# EAGLE library part CP2102 (library IC)
http://search.digikey.com/scripts/DkSearch/dksus.dll?Detail&name=336-1802-2-ND
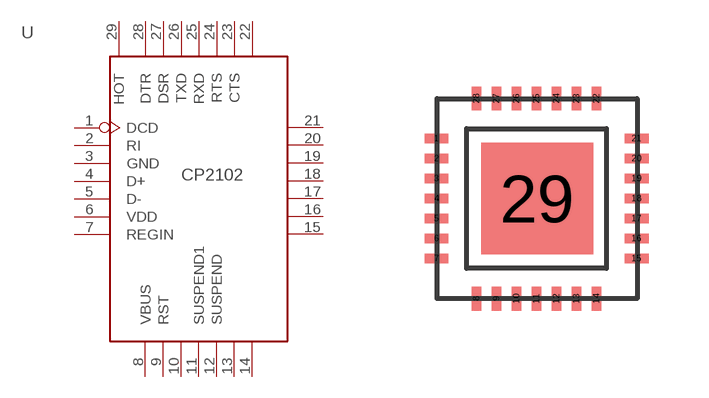
[diagram p42: symbol with the pads of QFN28; footprint QFN28]

Designator prefix U

## CP2102  [QFN28]
1  DCD
2  RI
3  GND
4  D+
5  D-
6  VDD
7  REGIN
8  VBUS
9  RST
10  P$10
11  SUSPEND1
12  SUSPEND
13  P$13
14  P$14
15  P$15
16  P$16
17  P$17
18  P$18
19  P$19
20  P$20
21  P$21
22  P$22
23  CTS
24  RTS
25  RXD
26  TXD
27  DSR
28  DTR
29  HOT

## Footprint QFN28 (pad centres in mm)
smd 0.6 x 0.23: 1 -2.516,1.5; 2 -2.516,1; 3 -2.516,0.5; 4 -2.516,0; 5 -2.516,-0.5; 6 -2.516,-1; 7 -2.516,-1.5; 15 2.484,-1.5; 16 2.484,-1; 17 2.484,-0.5; 18 2.484,0; 19 2.484,0.5; 20 2.484,1; 21 2.484,1.5
smd 0.23 x 0.6: 8 -1.516,-2.5; 9 -1.016,-2.5; 10 -0.516,-2.5; 11 -0.016,-2.5; 12 0.484,-2.5; 13 0.984,-2.5; 14 1.484,-2.5; 22 1.484,2.5; 23 0.984,2.5; 24 0.484,2.5; 25 -0.016,2.5; 26 -0.516,2.5; 27 -1.016,2.5; 28 -1.516,2.5
smd 2.8 x 2.8: 29 0,0